# Altium footprint library SENSOR.PcbLib: 86 footprints (part 4 of 6)
Each footprint in its own frame and in the unit in brackets; x right, y up, seen from the top. Pads: shape width x height; smd on the part's side, far side on the other; paste and mask are expansions set on the pad; w line width, h text height; cw(c..) or ccw(c..) is an arc to the next point about the centre after c.
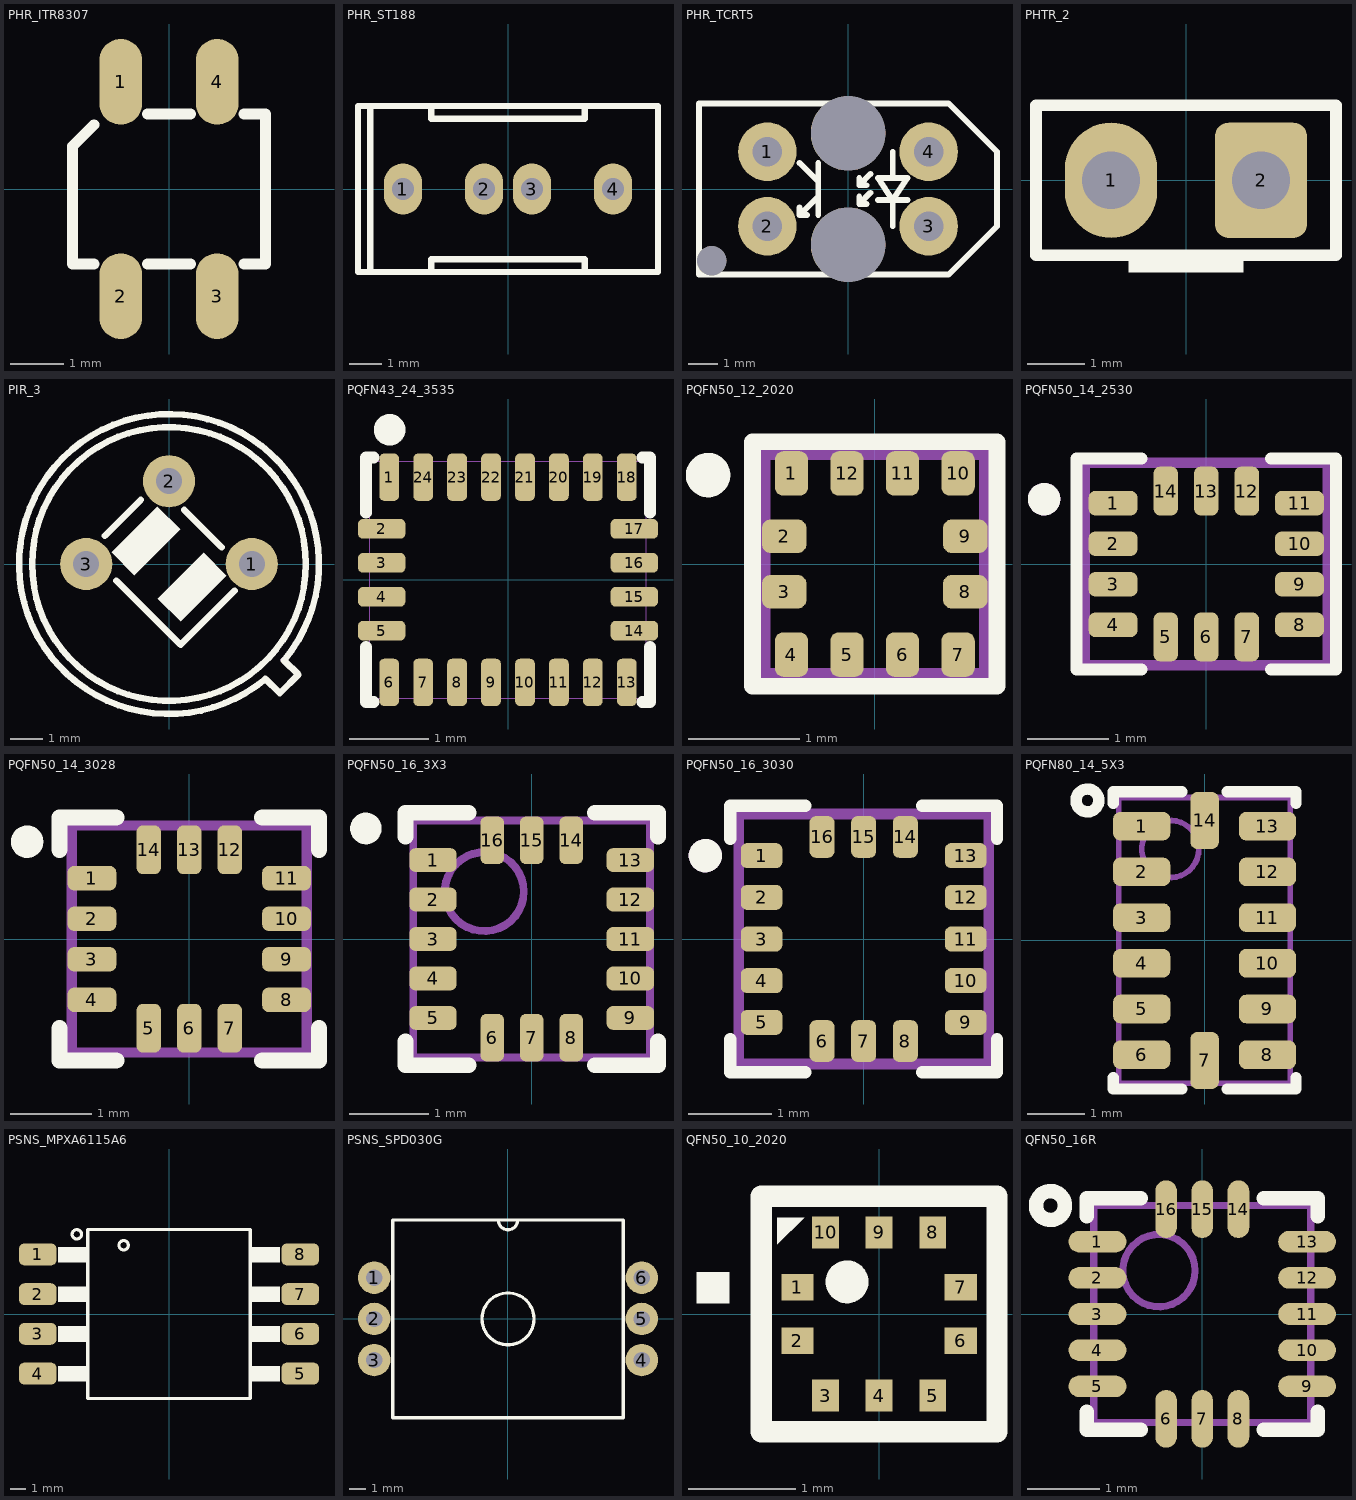
[diagram p3: the footprints below, top view; thin cyan lines are the x and y axes]

## PHR_ITR8307 [mm] "PHOTO, Reflective Optical Sensor, ITR8307"
pads (4):
  oval 0.8x1.6 smd: 1(-0.9,2) 2(-0.9,-2) 3(0.9,-2) 4(0.9,2)
Top Overlay:
  lines w0.2: -1.4,-1.4 -1.8,-1.4 -1.8,0.8 -1.4,1.2 ; -0.4,-1.4 0.4,-1.4 ; -0.4,1.4 0.4,1.4 ; 1.4,-1.4 1.8,-1.4 1.8,1.4 1.4,1.4
3D body: height 1.5, standoff 0, extent -1.7,-1.35 1.7,1.35

## PHR_ST188 [mm] "PHOTO, Reflective Optical Sensor, ST188"
height 8.2
pads (4):
  oval 1.2x1.6 hole 0.7: 1(-3.29,0) 2(-0.75,0) 3(0.75,0) 4(3.29,0)
Top Overlay:
  lines w0.2: -4.318,-2.6 -4.318,2.6 ; -2.4,-2.6 -2.4,-2.2 2.4,-2.2 2.4,-2.55 ; -2.4,2.6 -2.4,2.2 2.4,2.2 2.4,2.55 ; -4.7,-2.6 4.7,-2.6 4.7,2.6 -4.7,2.6 -4.7,-2.6
3D body "CircuitWorks-LED DIP 3MM.step": height 8.3, standoff -0.2, extent -3.92,-1.9 -0.42,1.9
3D body "CircuitWorks-LED DIP 3MM.step": height 8.3, standoff -0.2, extent 0.12,-1.9 3.62,1.9
3D body: height 8.2, standoff 0, extent -3.7,2.3 -2.3,2.5
3D body: height 8.2, standoff 0, extent -3.7,1.5 4.5,2.3
3D body: height 8.2, standoff 0, extent -4.5,-2.5 -3.7,2.5
3D body: height 8.2, standoff 0, extent 3.5,-1.5 4.5,1.5
3D body: height 8.2, standoff 0, extent -3.7,-2.3 4.5,-1.5
3D body: height 8.2, standoff 0, extent -0.5,-1.5 0.5,1.5
3D body: height 8.2, standoff 0, extent 2.3,2.3 4.5,2.5
3D body: height 8.2, standoff 0, extent 2.3,-2.5 4.5,-2.3
3D body: height 8.2, standoff 0, extent -3.7,-2.5 -2.3,-2.3
3D body: height 3, standoff 0, extent -2.3,-2.5 2.3,-2.3
3D body: height 3, standoff 0, extent -2.3,2.3 2.3,2.5
3D body: height 2, standoff -3, extent -3.49,-0.2 -3.09,0.2
3D body: height 2, standoff -3, extent -0.95,-0.2 -0.55,0.2
3D body: height 2, standoff -3, extent 0.55,-0.2 0.95,0.2
3D body: height 2, standoff -3, extent 3.09,-0.2 3.49,0.2

## PHR_TCRT5 [mm] "PHOTO, Reflective Optical Sensor (Vishay) tcrt5000"
pads (7):
  round 2 hole 1: 1(-2.75,1.27) 2(-2.75,-1.27) 3(2.75,-1.27) 4(2.75,1.27)
  round 1 hole 1 unplated: ""(-4.65,-2.45)
  round 2.54 hole 2.54 unplated: ""(0,-1.9) ""(0,1.9)
Top Overlay:
  lines w0.2: -1.651,-0.635 -1.651,-0.889 ; -1.651,0.889 -1.016,0.254 ; -1.397,-0.889 -1.651,-0.889 ; -1.016,-0.889 -1.016,0.889 ; -1.016,-0.254 -1.651,-0.889 ; 0.381,-0.254 0.381,-0.508 ; 0.381,0.381 0.381,0.127 ; 0.635,-0.508 0.381,-0.508 ; 0.635,0.127 0.381,0.127 ; 0.762,-0.127 0.381,-0.508 ; 0.762,0.508 0.381,0.127 ; 1.016,-0.381 2.032,-0.381 ; 1.524,-1.27 1.524,-0.381 ; 1.524,0.381 1.524,1.27 ; 1.524,-0.381 2.032,0.381 1.016,0.381 1.524,-0.381 ; -5.08,-2.921 3.429,-2.921 5.08,-1.27 5.08,1.27 3.429,2.921 -5.08,2.921 -5.08,-2.921
3D body "User Library-esfera de encaixe-1.step": height 6.25, standoff -5, extent 0.35,-1.25 2.85,1.25
3D body "User Library-esfera de encaixe-1.step": height 6.25, standoff -5, extent -2.85,-1.25 -0.35,1.25
3D body "User Library-corpo TCRT 5000.step": height 7.6, standoff -2.9, extent -5.1,-3.4 5.1,3.4

## PHTR_2 [mm] "Photransistor, PT534-6B"
pads (2):
  oval 1.6x2 hole 1: 1(-1.3,0)
  rrect30% 1.6x2 hole 1: 2(1.3,0)
Top Overlay:
  rectangle: -1,-1.6 1,-1.3
  lines w0.2: -2.6,-1.3 2.6,-1.3 2.6,1.3 -2.6,1.3 -2.6,-1.3
3D body: height 7.5, standoff 2.5, extent -2.5,-1.25 2.5,1.25
3D body: height 5, standoff 0, extent -2.5,-1.25 2.5,1.25
3D body: height 1, standoff -3, extent 1.05,-0.25 1.55,0.25
3D body: height 1, standoff -4, extent -1.55,-0.25 -1.05,0.25

## PIR_3 [mm] "PIR Sensors, D203B, D203S, D204B, D204S"
height 4.7
pads (3):
  round 1.6 hole 0.8: 1(2.54,0) 2(0,2.54) 3(-2.54,0)
Top Overlay:
  circle w0.2: c0,0 r4.2
  region: 1.061,0.354 -0.354,-1.061 0.353,-1.768 1.768,-0.354
  region: -0.354,1.768 -1.768,0.354 -1.061,-0.354 0.353,1.061
  lines w0.2: -1.964,0.864 -0.864,1.964 ; -1.611,-0.511 0.354,-2.475 2.014,-0.814 ; 0.461,1.661 1.611,0.511 ; 2.957,-3.524 cw(c0,0) 3.524,-2.957 3.97,-3.39 3.4,-3.96 2.957,-3.524
Mechanical 1:
  lines w0.2: 3.522,-2.956 3.536,-2.956
3D body "PIR_S_Orginal.STEP": height 4.7, standoff -2, extent -4.537,-4.54 4.563,4.559

## PQFN43_24_3535 [mm] "LGA (3.5x3x1 mm) 24-lead, LSM9DS1 gyro"
height 1
pads (24):
  rrect50% 0.25x0.6 smd paste-0.025 mask+0.05: 1(-1.505,1.3) 6(-1.505,-1.3) 7(-1.075,-1.3) 8(-0.645,-1.3) 9(-0.215,-1.3) 10(0.215,-1.3) 11(0.645,-1.3) 12(1.075,-1.3) 13(1.505,-1.3) 18(1.505,1.3) 19(1.075,1.3) 20(0.645,1.3) 21(0.215,1.3) 22(-0.215,1.3) 23(-0.645,1.3) 24(-1.075,1.3)
  rrect50% 0.6x0.25 smd paste-0.025 mask+0.05: 2(-1.6,0.645) 3(-1.6,0.215) 4(-1.6,-0.215) 5(-1.6,-0.645) 14(1.6,-0.645) 15(1.6,-0.215) 16(1.6,0.215) 17(1.6,0.645)
Top Overlay:
  circle w0.2: c-1.5,1.9 r0.1
  lines w0.15: -1.8,-0.85 -1.8,-1.55 -1.7,-1.55 ; -1.8,0.85 -1.8,1.55 -1.7,1.55 ; 1.7,-1.55 1.8,-1.55 1.8,-0.85 ; 1.7,1.55 1.8,1.55 1.8,0.85
Mechanical 13:
  lines w0.01: -1.75,-1.5 1.75,-1.5 1.75,1.5 -1.75,1.5 -1.75,-1.5
3D body "step_temp.STEP": height 1.03, standoff 0, extent -1.75,-1.5 1.75,1.5

## PQFN50_12_2020 [mm] "LGA-12, 0.5mm pitch, 2x2x0.82mm"
height 0.82
pads (12):
  rrect50% 0.3x0.4 smd mask+0.05: 1(-0.75,0.815) 4(-0.75,-0.815) 5(-0.25,-0.815) 6(0.25,-0.815) 7(0.75,-0.815) 10(0.75,0.815) 11(0.25,0.815) 12(-0.25,0.815)
  rrect50% 0.4x0.3 smd mask+0.05: 2(-0.815,0.25) 3(-0.815,-0.25) 8(0.815,-0.25) 9(0.815,0.25)
Top Overlay:
  circle w0.2: c-1.5,0.8 r0.1
  lines w0.15: -1.1,-1.1 -1.1,1.1 1.1,1.1 1.1,-1.1 -1.1,-1.1
Mechanical 13:
  lines w0.127: -1,-1 -1,1 1,1 1,-1 -1,-1
3D body "step_temp.STEP": height 1, standoff 0, extent -1,-1 1,1

## PQFN50_14_2530 [mm] "LGA-14, 0.5mm pitch, 2.5x3x0.86mm"
height 0.86
pads (14):
  rrect50% 0.6x0.3 smd mask+0.05: 1(-1.15,0.75) 2(-1.15,0.25) 3(-1.15,-0.25) 4(-1.15,-0.75) 8(1.15,-0.75) 9(1.15,-0.25) 10(1.15,0.25) 11(1.15,0.75)
  rrect50% 0.3x0.6 smd mask+0.05: 5(-0.5,-0.9) 6(0,-0.9) 7(0.5,-0.9) 12(0.5,0.9) 13(0,0.9) 14(-0.5,0.9)
Top Overlay:
  circle w0.2: c-2,0.8 r0.1
  lines w0.15: -0.8,-1.3 -1.6,-1.3 -1.6,1.3 -0.8,1.3 ; 0.8,-1.3 1.6,-1.3 1.6,1.3 0.8,1.3
Mechanical 13:
  circle w0.2: c-2,0.8 r0.1
  lines w0.127: -1.5,-1.25 1.5,-1.25 1.5,1.25 -1.5,1.25 -1.5,-1.25
3D body "step_temp.STEP": height 0.86, standoff 0, extent -1.5,-1.25 1.5,1.25

## PQFN50_14_3028 [mm] "CC-14-3, LGA-14, 2.9×2.8×1mm"
height 1
pads (14):
  rrect50% 0.6x0.3 smd mask+0.05: 1(-1.2,0.75) 2(-1.2,0.25) 3(-1.2,-0.25) 4(-1.2,-0.75) 8(1.2,-0.75) 9(1.2,-0.25) 10(1.2,0.25) 11(1.2,0.75)
  rrect50% 0.3x0.6 smd mask+0.05: 5(-0.5,-1.1) 6(0,-1.1) 7(0.5,-1.1) 12(0.5,1.1) 13(0,1.1) 14(-0.5,1.1)
Top Overlay:
  circle w0.2: c-2,1.2 r0.1
  lines w0.2: -1.6,-1.1 -1.6,-1.5 -0.9,-1.5 ; -1.6,1.1 -1.6,1.5 -0.9,1.5 ; 0.9,-1.5 1.6,-1.5 1.6,-1.1 ; 0.9,1.5 1.6,1.5 1.6,1.1
Mechanical 13:
  lines w0.127: -1.45,-1.4 -1.45,1.4 1.45,1.4 1.45,-1.4 -1.45,-1.4
3D body "step_temp.STEP": height 0.97, standoff 0, extent -1.45,-1.4 1.45,1.4

## PQFN50_16_3X3 [mm] "16 Lead LGA (3x3x0.75) ICM20601"
height 0.8
pads (16):
  rrect50% 0.6x0.3 smd paste-0.05 mask+0.05: 1(-1.25,1) 2(-1.25,0.5) 3(-1.25,0) 4(-1.25,-0.5) 5(-1.25,-1) 9(1.25,-1) 10(1.25,-0.5) 11(1.25,0) 12(1.25,0.5) 13(1.25,1)
  rrect50% 0.3x0.6 smd paste-0.05 mask+0.05: 6(-0.5,-1.25) 7(0,-1.25) 8(0.5,-1.25) 14(0.5,1.25) 15(0,1.25) 16(-0.5,1.25)
Top Overlay:
  circle w0.2: c-2.1,1.4 r0.1
  lines w0.2: -1.6,-1.3 -1.6,-1.6 -0.8,-1.6 ; -1.6,1.3 -1.6,1.6 -0.8,1.6 ; 0.8,-1.6 1.6,-1.6 1.6,-1.3 ; 0.8,1.6 1.6,1.6 1.6,1.3
Mechanical 13:
  circle w0.1: c-0.6,0.6 r0.5
  lines w0.1: -1.5,-1.5 -1.5,1.5 1.5,1.5 1.5,-1.5 -1.5,-1.5
3D body "PQFN50_16_3X3.step": height 0.8, standoff 0, extent -1.5,-1.5 1.5,1.5

## PQFN50_16_3030 [mm] "LGA-16, 0.5mm pitch, 3x3x1mm"
height 1
pads (16):
  rrect50% 0.5x0.3 smd mask+0.05: 1(-1.225,1) 2(-1.225,0.5) 3(-1.225,0) 4(-1.225,-0.5) 5(-1.225,-1) 9(1.225,-1) 10(1.225,-0.5) 11(1.225,0) 12(1.225,0.5) 13(1.225,1)
  rrect50% 0.3x0.5 smd mask+0.05: 6(-0.5,-1.225) 7(0,-1.225) 8(0.5,-1.225) 14(0.5,1.225) 15(0,1.225) 16(-0.5,1.225)
Top Overlay:
  circle w0.2: c-1.9,1 r0.1
  lines w0.15: -1.6,-1.2 -1.6,-1.6 -0.7,-1.6 ; -1.6,1.2 -1.6,1.6 -0.7,1.6 ; 0.7,-1.6 1.6,-1.6 1.6,-1.2 ; 0.7,1.6 1.6,1.6 1.6,1.2
Mechanical 13:
  circle w0.2: c-1.9,1 r0.1
  lines w0.127: -1.5,-1.5 -1.5,1.5 1.5,1.5 1.5,-1.5 -1.5,-1.5
3D body "step_temp.STEP": height 1, standoff 0, extent -1.5,-1.5 1.5,1.5

## PQFN80_14_5X3 [mm] "QFN LGA 5.0X3.0mm, pitch: 0.8mm, ADXL345"
height 1
pads (14):
  rrect50% 1x0.5 smd paste-0.05 mask+0.075: 1(-1.1,2) 2(-1.1,1.2) 3(-1.1,0.4) 4(-1.1,-0.4) 5(-1.1,-1.2) 6(-1.1,-2) 8(1.1,-2) 9(1.1,-1.2) 10(1.1,-0.4) 11(1.1,0.4) 12(1.1,1.2) 13(1.1,2)
  rrect50% 0.5x1 smd paste-0.05 mask+0.075: 7(0,-2.1) 14(0,2.1)
Top Overlay:
  circle w0.2: c-2.05,2.45 r0.2
  lines w0.2: -1.6,-2.4 -1.6,-2.6 -0.4,-2.6 ; -1.6,2.4 -1.6,2.6 -0.4,2.6 ; 0.4,-2.6 1.6,-2.6 1.6,-2.4 ; 0.4,2.6 1.6,2.6 1.6,2.4
Mechanical 13:
  circle w0.1: c-0.6,1.6 r0.5
  lines w0.1: -1.5,-2.5 1.5,-2.5 1.5,2.5 -1.5,2.5 -1.5,-2.5
3D body "QFN80_14_5X3.step": height 1, standoff 0, extent -1.5,-2.5 1.5,2.5

## PSNS_MPXA6115A6 [mm] "Pressure Sensor, MPXA6115A6"
pads (8):
  rrect50% 2.4x1.4 smd: 1(-8.4,3.81) 2(-8.4,1.27) 3(-8.4,-1.27) 4(-8.4,-3.81) 5(8.4,-3.81) 6(8.4,-1.27) 7(8.4,1.27) 8(8.4,3.81)
Top Overlay:
  circle w0.2: c-2.9,4.4 r0.3
  circle w0.2: c-5.9,5.1 r0.3
  rectangle: -7.1,3.3 -5.2,4.3
  rectangle: -7.1,0.76 -5.2,1.76
  rectangle: -7.1,-1.78 -5.2,-0.78
  rectangle: -7.1,-4.32 -5.2,-3.32
  region: 7.1,-3.32 5.2,-3.32 5.2,-4.32 7.1,-4.32
  region: 7.1,-0.78 5.2,-0.78 5.2,-1.78 7.1,-1.78
  region: 7.1,1.76 5.2,1.76 5.2,0.76 7.1,0.76
  region: 7.1,4.3 5.2,4.3 5.2,3.3 7.1,3.3
  lines w0.2: -5.2,-5.4 -5.2,5.4 5.2,5.4 5.2,-5.4 -5.2,-5.4
3D body "User Library-MPXV6115V.step": height 13, standoff 0, extent -9.1,-5.65 9.1,5.65

## PSNS_SPD030G [mm] "Pressure Sensor, SPD030G"
pads (6):
  round 2 hole 1: 1(-8.25,2.54) 2(-8.25,0) 3(-8.25,-2.54) 4(8.25,-2.54) 5(8.25,0) 6(8.25,2.54)
Top Overlay:
  circle w0.2: c0,0 r1.6
  lines w0.2: -0.6,6.1 ccw(c0,6.1) 0.6,6.1 ; -7.1,-6.1 -7.1,6.1 7.1,6.1 7.1,-6.1 -7.1,-6.1
3D body: height 4, standoff 0, extent -7,-6 7,6
3D body: height 15, standoff 3, extent -1.5,-1.498 1.5,1.499

## QFN50_10_2020 [mm] "LGA 2x2x0.75mm"
height 0.75
pads (10):
  rect 0.3x0.25 smd paste+0 mask+0.05: 1(-0.762,0.25) 2(-0.762,-0.25) 6(0.762,-0.25) 7(0.762,0.25)
  rect 0.25x0.3 smd paste+0 mask+0.05: 3(-0.5,-0.762) 4(0,-0.762) 5(0.5,-0.762) 8(0.5,0.762) 9(0,0.762) 10(-0.5,0.762)
Top Overlay:
  circle w0.2: c-0.3,0.3 r0.1
  region: -0.95,0.9 -0.7,0.9 -0.95,0.65
  region: -1.4,0.39 -1.4,0.1 -1.7,0.1 -1.7,0.39
  lines w0.2: -1.1,-1.1 -1.1,1.1 1.1,1.1 1.1,-1.1 -1.1,-1.1
3D body "QFN_BMP388_BOS.step": height 0.81, standoff 0, extent -1.029,-1.029 1.029,1.029

## QFN50_16R [mm] "TFLGA 3x3x1, 5+3+5+3, 3X3mm, 0.5mm pitch"
height 1
pads (16):
  oval 0.8x0.3 smd paste-0.05 mask+0.075: 1(-1.45,1) 2(-1.45,0.5) 3(-1.45,0) 4(-1.45,-0.5) 5(-1.45,-1) 9(1.45,-1) 10(1.45,-0.5) 11(1.45,0) 12(1.45,0.5) 13(1.45,1)
  oval 0.3x0.8 smd paste-0.05 mask+0.075: 6(-0.5,-1.45) 7(0,-1.45) 8(0.5,-1.45) 14(0.5,1.45) 15(0,1.45) 16(-0.5,1.45)
Top Overlay:
  circle w0.2: c-2.1,1.5 r0.2
  lines w0.2: -1.6,-1.35 -1.6,-1.6 -0.85,-1.6 ; -1.6,1.35 -1.6,1.6 -0.85,1.6 ; 0.85,-1.6 1.6,-1.6 1.6,-1.35 ; 0.85,1.6 1.6,1.6 1.6,1.35
Mechanical 13:
  circle w0.1: c-0.6,0.6 r0.5
  lines w0.1: -1.5,-1.5 -1.5,1.5 1.5,1.5 1.5,-1.5 -1.5,-1.5
3D body: height 1, standoff 0, extent -1.5,-1.5 1.5,1.5